# Altium schematic symbol library switch_dip.SchLib: 26 symbols
Pins are listed as number, name and electrical type; pins without a type are passive.

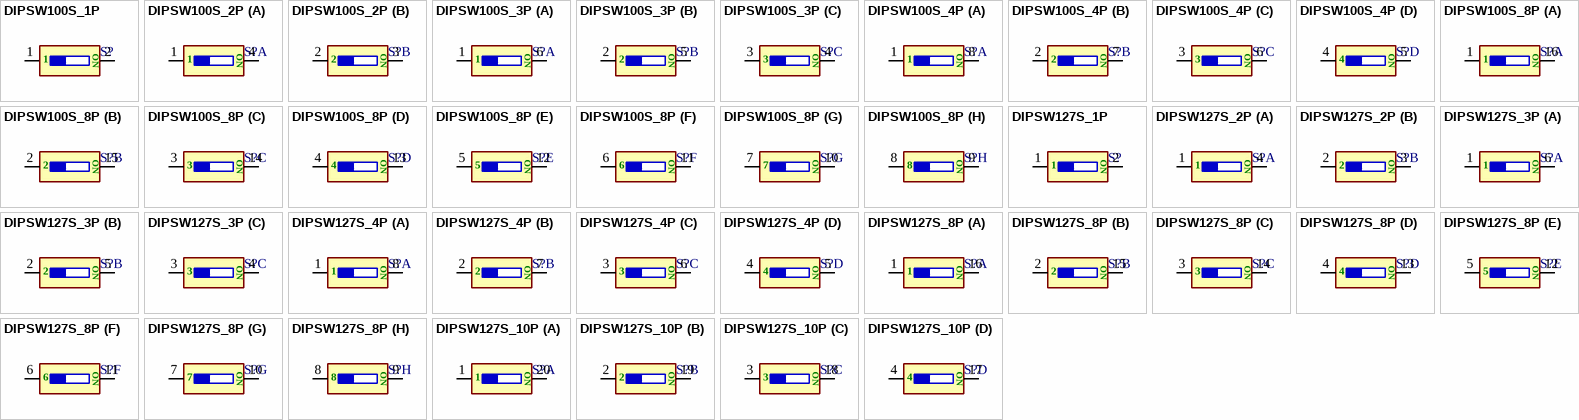
[diagram p0: symbols DIPSW100S_1P to DIPSW127S_10P]

## DIPSW100S_1P
designator S?, comment DIPSW1  (value not drawn)
SWITCH, DIP, 4P, SMD, 1mm pitch; MANF: Nidec Copal; MANF_P#: CVS-01TB; VALUE: DIPSW1; PRICE: 2$
footprint DIPSW100S_1 (SWITCH DIP 4POS, SMD, 1mm, CVS-01, 4.7X5x1.5mm nidec copal)
pins: 1 A1, 2 B1
text: ON

## DIPSW100S_2P
designator S?, comment DIPSW2  (value not drawn)
SWITCH, DIP, 4P, SMD, 1mm pitch; MANF: Nidec Copal; MANF_P#: CVS-04TB; VALUE: DIPSW2; PRICE: 2$
footprint DIPSW100S_2 (SWITCH DIP 4POS, SMD, 1mm, CVS-02, 4.7X5x1.5mm nidec copal)
part A pins: 1 A1, 4 B1
part B pins: 2 A2, 3 B2
part A text: ON
part B text: ON

## DIPSW100S_3P
designator S?, comment DIPSW3  (value not drawn)
SWITCH, DIP, 4P, SMD, 1mm pitch; MANF: Nidec Copal; MANF_P#: CVS-03TB; VALUE: DIPSW3; PRICE: 2$
footprint DIPSW100S_3 (SWITCH DIP 4POS, SMD, 1mm, CVS-03, 4.7X5x1.5mm nidec copal)
part A pins: 1 A1, 6 B1
part B pins: 2 A2, 5 B2
part C pins: 3 A3, 4 B3
part A text: ON
part B text: ON
part C text: ON

## DIPSW100S_4P
designator S?, comment DIPSW4  (value not drawn)
SWITCH, DIP, 4P, SMD, 1mm pitch; MANF: Nidec Copal; MANF_P#: CVS-04TB; VALUE: DIPSW4; PRICE: 2$
footprint DIPSW100S_4 (SWITCH DIP 4POS, SMD, 1mm, CVS-04, 4.7X5x1.5mm nidec copal)
part A pins: 1 A1, 8 B1
part B pins: 2 A2, 7 B2
part C pins: 3 A3, 6 B3
part D pins: 4 A4, 5 B4
part A text: ON
part B text: ON
part C text: ON
part D text: ON

## DIPSW100S_8P
designator S?, comment DIPSW8  (value not drawn)
SWITCH, DIP, 8P, SMD; MANF: Nidec Copal; MANF_P#: CVS-08TB; VALUE: DIPSW8
footprint DIPSW100S_8 (SWITCH DIP 4POS, SMD, 1mm, CVS-08, 4.7X5x1.5mm nidec copal)
part A pins: 1 A1, 16 B1
part B pins: 2 A2, 15 B2
part C pins: 3 A3, 14 B3
part D pins: 4 A4, 13 B4
part E pins: 5 A5, 12 B5
part F pins: 6 A6, 11 B6
part G pins: 7 A7, 10 B7
part H pins: 8 A8, 9 B8
part A text: ON
part B text: ON
part C text: ON
part D text: ON
part E text: ON
part F text: ON
part G text: ON
part H text: ON

## DIPSW127S_1P
designator S?, comment DIPSW1  (value not drawn)
SWITCH, DIP, 2P, SMD; MANF: C&K; MANF_P#: TDA02H0JB1R; VALUE: DIPSW1
footprint DIPSW127S_1 (SWITCH DIP 1POS, SMD, 1.27mm, 6.1X2.4mm www.ck-components.com, TDA series)
pins: 1 A1, 2 B1
text: ON

## DIPSW127S_2P
designator S?, comment DIPSW2  (value not drawn)
SWITCH, DIP, 2P, SMD; MANF: C&K; MANF_P#: TDA02H0JB1R; VALUE: DIPSW2
footprint DIPSW127S_2 (SWITCH DIP 2POS, SMD, 1.27mm, 6.1X2.4mm www.ck-components.com, TDA series)
part A pins: 1 A1, 4 B1
part B pins: 2 A2, 3 B2
part A text: ON
part B text: ON

## DIPSW127S_3P
designator S?, comment DIPSW3  (value not drawn)
SWITCH, DIP, 3P, SMD; MANF: China; MANF_P#: DSHP03TS-S; VALUE: DIPSW3; PRICE: 2.27$
footprint DIPSW127S_3 (Footprint not found)
part A pins: 1 A1, 6 B1
part B pins: 2 A2, 5 B2
part C pins: 3 A3, 4 B3
part A text: ON
part B text: ON
part C text: ON

## DIPSW127S_4P
designator S?, comment DIPSW4  (value not drawn)
SWITCH, DIP, 4P, SMD; MANF: C&K; MANF_P#: TDA04H0JB1R; VALUE: DIPSW4; PRICE: 2.27$
footprint DIPSW127S_4 (SWITCH DIP 4POS, SMD, 1.27mm, 6.1X6.2mm www.ck-components.com, TDA series)
part A pins: 1 A1, 8 B1
part B pins: 2 A2, 7 B2
part C pins: 3 A3, 6 B3
part D pins: 4 A4, 5 B4
part A text: ON
part B text: ON
part C text: ON
part D text: ON

## DIPSW127S_8P
designator S?, comment DIPSW8  (value not drawn)
SWITCH, DIP, 8P, SMD; MANF: C&K; MANF_P#: TDA08H0JB1R; VALUE: DIPSW8
footprint DIPSW127S_8 (SWITCH DIP 8POS, SMD, 1.27mm, 6.1X11.3mm www.ck-components.com, TDA series)
part A pins: 1 A1, 16 B1
part B pins: 2 A2, 15 B2
part C pins: 3 A3, 14 B3
part D pins: 4 A4, 13 B4
part E pins: 5 A5, 12 B5
part F pins: 6 A6, 11 B6
part G pins: 7 A7, 10 B7
part H pins: 8 A8, 9 B8
part A text: ON
part B text: ON
part C text: ON
part D text: ON
part E text: ON
part F text: ON
part G text: ON
part H text: ON

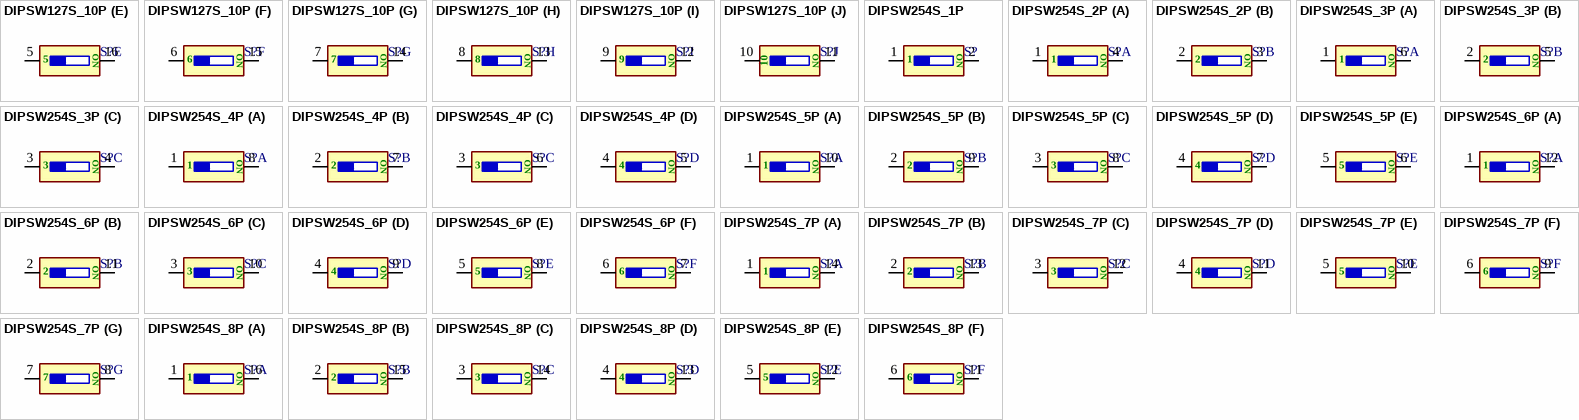
[diagram p1: symbols DIPSW127S_10P to DIPSW254S_8P]

## DIPSW127S_10P
designator S?, comment DIPSW10  (value not drawn)
SWITCH, DIP, 10P, SMD; MANF: C&K; MANF_P#: TDA10H0JB1R; VALUE: DIPSW10
footprint DIPSW127S_10 (SWITCH DIP 10POS, SMD, 1.27mm, 6.1X13.8mm)
part A pins: 1 A1, 20 B1
part B pins: 2 A2, 19 B2
part C pins: 3 A3, 18 B3
part D pins: 4 A4, 17 B4
part E pins: 5 A5, 16 B5
part F pins: 6 A6, 15 B6
part G pins: 7 A7, 14 B7
part H pins: 8 A8, 13 B8
part I pins: 9 A9, 12 B9
part J pins: 10 A10, 11 B10
part A text: ON
part B text: ON
part C text: ON
part D text: ON
part E text: ON
part F text: ON
part G text: ON
part H text: ON
part I text: ON
part J text: ON

## DIPSW254S_1P
designator S?, comment DIPSW1  (value not drawn)
SWITCH, DIP, 1P, THD; MANF: MANF; MANF_P#: MANF_P#; VALUE: DIPSW1
footprint DIPSW254S_1 (SWITCH DIP 1POS, THD, 2.54mm)
pins: 1 A1, 2 B1
text: ON

## DIPSW254S_2P
designator S?, comment DIPSW2  (value not drawn)
SWITCH, DIP, 2P, THD; MANF: MANF; MANF_P#: MANF_P#; VALUE: DIPSW2
footprint DIPSW254S_2 (SWITCH DIP 2POS, THD, 2.54mm, SD02)
part A pins: 1 A1, 4 B1
part B pins: 2 A2, 3 B2
part A text: ON
part B text: ON

## DIPSW254S_3P
designator S?, comment DIPSW3  (value not drawn)
SWITCH, DIP, 3P, THD; MANF: MANF; MANF_P#: MANF_P#; VALUE: DIPSW3
footprint DIPSW254S_3 (SWITCH DIP 3POS, THD, 2.54mm, SD03)
part A pins: 1 A1, 6 B1
part B pins: 2 A2, 5 B2
part C pins: 3 A3, 4 B3
part A text: ON
part B text: ON
part C text: ON

## DIPSW254S_4P
designator S?, comment DIPSW4  (value not drawn)
SWITCH, DIP, 4P, THD; MANF: MANF; MANF_P#: MANF_P#; VALUE: DIPSW4
footprint DIPSW254S_4 (SWITCH DIP 4POS, SMD, 2.54mm, CTS-219-04)
part A pins: 1 A1, 8 B1
part B pins: 2 A2, 7 B2
part C pins: 3 A3, 6 B3
part D pins: 4 A4, 5 B4
part A text: ON
part B text: ON
part C text: ON
part D text: ON

## DIPSW254S_5P
designator S?, comment DIPSW5  (value not drawn)
SWITCH, DIP, 5P, THD; MANF: MANF; MANF_P#: MANF_P#; VALUE: DIPSW5
footprint DIPSW254S_5 (SWITCH DIP 5POS, THD, 2.54mm,)
part A pins: 1 A1, 10 B1
part B pins: 2 A2, 9 B2
part C pins: 3 A3, 8 B3
part D pins: 4 A4, 7 B4
part E pins: 5 A5, 6 B5
part A text: ON
part B text: ON
part C text: ON
part D text: ON
part E text: ON

## DIPSW254S_6P
designator S?, comment DIPSW6  (value not drawn)
SWITCH, DIP, 8P, THD; MANF: MANF; MANF_P#: MANF_P#; VALUE: DIPSW6
footprint DIPSW254S_6 (SWITCH DIP 6POS, THD, 2.54mm,)
part A pins: 1 A1, 12 B1
part B pins: 2 A2, 11 B2
part C pins: 3 A3, 10 B3
part D pins: 4 A4, 9 B4
part E pins: 5 A5, 8 B5
part F pins: 6 A6, 7 B6
part A text: ON
part B text: ON
part C text: ON
part D text: ON
part E text: ON
part F text: ON

## DIPSW254S_7P
designator S?, comment DIPSW7  (value not drawn)
SWITCH, DIP, 7P, THD; MANF: MANF; MANF_P#: MANF_P#; VALUE: DIPSW7
footprint DIPSW254S_7 (SWITCH DIP 7POS, THD, 2.54mm,)
part A pins: 1 A1, 14 B1
part B pins: 2 A2, 13 B2
part C pins: 3 A3, 12 B3
part D pins: 4 A4, 11 B4
part E pins: 5 A5, 10 B5
part F pins: 6 A6, 9 B6
part G pins: 7 A7, 8 B7
part A text: ON
part B text: ON
part C text: ON
part D text: ON
part E text: ON
part F text: ON
part G text: ON

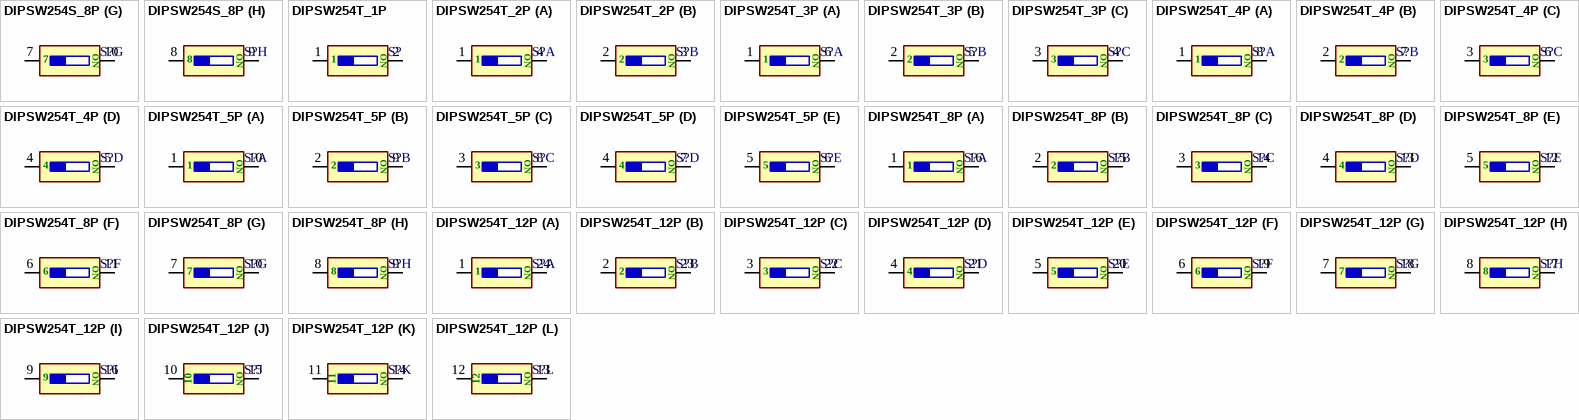
[diagram p2: symbols DIPSW254S_8P to DIPSW254T_12P]

## DIPSW254S_8P
designator S?, comment DIPSW8  (value not drawn)
SWITCH, DIP, 8P, THD; MANF: MANF; MANF_P#: MANF_P#; VALUE: DIPSW8
footprint DIPSW254S_8 (SWITCH DIP 8POS, THD, 2.54mm,)
part A pins: 1 A1, 16 B1
part B pins: 2 A2, 15 B2
part C pins: 3 A3, 14 B3
part D pins: 4 A4, 13 B4
part E pins: 5 A5, 12 B5
part F pins: 6 A6, 11 B6
part G pins: 7 A7, 10 B7
part H pins: 8 A8, 9 B8
part A text: ON
part B text: ON
part C text: ON
part D text: ON
part E text: ON
part F text: ON
part G text: ON
part H text: ON

## DIPSW254T_1P
designator S?, comment DIPSW1  (value not drawn)
SWITCH, DIP, 1P, THD; MANF: MANF; MANF_P#: MANF_P#; VALUE: DIPSW1
footprint DIPSW254T_1 (SWITCH DIP 1POS, THD, 2.54mm)
pins: 1 A1, 2 B1
text: ON

## DIPSW254T_2P
designator S?, comment DIPSW2  (value not drawn)
SWITCH, DIP, 2P, THD; MANF: MANF; MANF_P#: MANF_P#; VALUE: DIPSW2
footprint DIPSW254T_2 (SWITCH DIP 2POS, THD, 2.54mm, SD02)
part A pins: 1 A1, 4 B1
part B pins: 2 A2, 3 B2
part A text: ON
part B text: ON

## DIPSW254T_3P
designator S?, comment DIPSW3  (value not drawn)
SWITCH, DIP, 3P, THD; MANF: MANF; MANF_P#: MANF_P#; VALUE: DIPSW3
footprint DIPSW254T_3 (SWITCH DIP 3POS, THD, 2.54mm, SD03)
part A pins: 1 A1, 6 B1
part B pins: 2 A2, 5 B2
part C pins: 3 A3, 4 B3
part A text: ON
part B text: ON
part C text: ON

## DIPSW254T_4P
designator S?, comment DIPSW4  (value not drawn)
SWITCH, DIP, 4P, THD; MANF: MANF; MANF_P#: MANF_P#; VALUE: DIPSW4
footprint DIPSW254T_4 (SWITCH DIP 4POS, THD, 2.54mm, YL04)
part A pins: 1 A1, 8 B1
part B pins: 2 A2, 7 B2
part C pins: 3 A3, 6 B3
part D pins: 4 A4, 5 B4
part A text: ON
part B text: ON
part C text: ON
part D text: ON

## DIPSW254T_5P
designator S?, comment DIPSW5  (value not drawn)
SWITCH, DIP, 5P, THD; MANF: MANF; MANF_P#: MANF_P#; VALUE: DIPSW5
footprint DIPSW254T_5 (SWITCH DIP 5POS, THD, 2.54mm,)
part A pins: 1 A1, 10 B1
part B pins: 2 A2, 9 B2
part C pins: 3 A3, 8 B3
part D pins: 4 A4, 7 B4
part E pins: 5 A5, 6 B5
part A text: ON
part B text: ON
part C text: ON
part D text: ON
part E text: ON

## DIPSW254T_8P
designator S?, comment DIPSW8  (value not drawn)
SWITCH, DIP, 8P, THD; MANF: MANF; MANF_P#: MANF_P#; VALUE: DIPSW8
footprint DIPSW254T_8 (SWITCH DIP 8POS, THD, 2.54mm,)
part A pins: 1 A1, 16 B1
part B pins: 2 A2, 15 B2
part C pins: 3 A3, 14 B3
part D pins: 4 A4, 13 B4
part E pins: 5 A5, 12 B5
part F pins: 6 A6, 11 B6
part G pins: 7 A7, 10 B7
part H pins: 8 A8, 9 B8
part A text: ON
part B text: ON
part C text: ON
part D text: ON
part E text: ON
part F text: ON
part G text: ON
part H text: ON

## DIPSW254T_12P
designator S?, comment DIPSW12  (value not drawn)
SWITCH, DIP, 12P, THD; MANF: MANF; MANF_P#: MANF_P#; VALUE: DIPSW12
footprint DIPSW254T_12 (SWITCH DIP 12POS, THD, 2.54mm,)
part A pins: 1 A1, 24 B1
part B pins: 2 A2, 23 B2
part C pins: 3 A3, 22 B3
part D pins: 4 A4, 21 B4
part E pins: 5 A5, 20 B5
part F pins: 6 A6, 19 B6
part G pins: 7 A7, 18 B7
part H pins: 8 A8, 17 B8
part I pins: 9 A9, 16 B9
part J pins: 10 A10, 15 B10
part K pins: 11 A11, 14 B11
part L pins: 12 A12, 13 B12
part A text: ON
part B text: ON
part C text: ON
part D text: ON
part E text: ON
part F text: ON
part G text: ON
part H text: ON
part I text: ON
part J text: ON
part K text: ON
part L text: ON